# Altium schematic symbol library Header.SchLib: 46 symbols
Pins are listed as number, name and electrical type; pins without a type are passive.

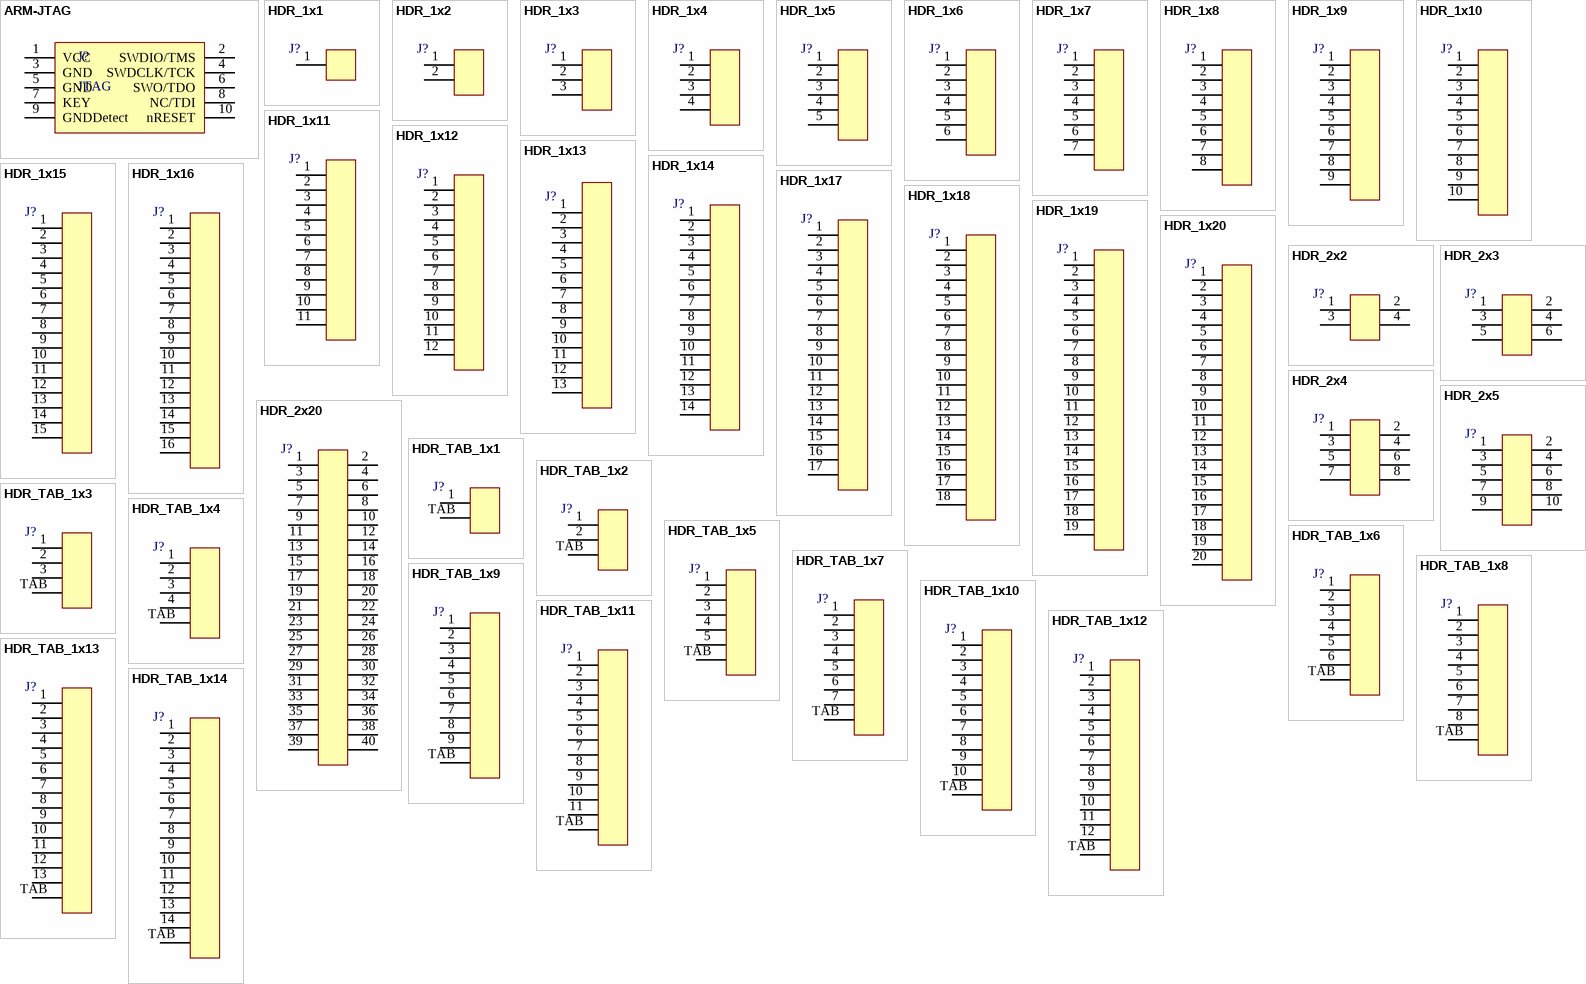
[diagram p0: symbols ARM-JTAG to HDR_TAB_1x14]

## ARM-JTAG
designator J?, comment JTAG
pins: 1 VCC, 2 SWDIO/TMS, 3 GND, 4 SWDCLK/TCK, 5 GND, 6 SWO/TDO, 7 KEY, 8 NC/TDI, 9 GNDDetect, 10 nRESET

## HDR_1x1
designator J?
=Description
pins: 1

## HDR_1x2
designator J?
=Description
pins: 1, 2

## HDR_1x3
designator J?
=Description
pins: 1, 2, 3

## HDR_1x4
designator J?
=Description
pins: 1, 2, 3, 4

## HDR_1x5
designator J?
=Description
pins: 1, 2, 3, 4, 5

## HDR_1x6
designator J?
=Description
pins: 1, 2, 3, 4, 5, 6

## HDR_1x7
designator J?
=Description
pins: 1, 2, 3, 4, 5, 6, 7

## HDR_1x8
designator J?
=Description
pins: 1, 2, 3, 4, 5, 6, 7, 8

## HDR_1x9
designator J?
=Description
pins: 1, 2, 3, 4, 5, 6, 7, 8, 9

## HDR_1x10
designator J?
=Description
pins: 1, 2, 3, 4, 5, 6, 7, 8, 9, 10

## HDR_1x11
designator J?
=Description
pins: 1, 2, 3, 4, 5, 6, 7, 8, 9, 10, 11

## HDR_1x12
designator J?
=Description
pins: 1, 2, 3, 4, 5, 6, 7, 8, 9, 10, 11, 12

## HDR_1x13
designator J?
=Description
pins: 1, 2, 3, 4, 5, 6, 7, 8, 9, 10, 11, 12, 13

## HDR_1x14
designator J?
=Description
pins: 1, 2, 3, 4, 5, 6, 7, 8, 9, 10, 11, 12, 13, 14

## HDR_1x15
designator J?
=Description
pins: 1, 2, 3, 4, 5, 6, 7, 8, 9, 10, 11, 12, 13, 14, 15

## HDR_1x16
designator J?
=Description
pins: 1, 2, 3, 4, 5, 6, 7, 8, 9, 10, 11, 12, 13, 14, 15, 16

## HDR_1x17
designator J?
=Description
pins: 1, 2, 3, 4, 5, 6, 7, 8, 9, 10, 11, 12, 13, 14, 15, 16, 17

## HDR_1x18
designator J?
=Description
pins: 1, 2, 3, 4, 5, 6, 7, 8, 9, 10, 11, 12, 13, 14, 15, 16, 17, 18

## HDR_1x19
designator J?
=Description
pins: 1, 2, 3, 4, 5, 6, 7, 8, 9, 10, 11, 12, 13, 14, 15, 16, 17, 18, 19

## HDR_1x20
designator J?
=Description
pins: 1, 2, 3, 4, 5, 6, 7, 8, 9, 10, 11, 12, 13, 14, 15, 16, 17, 18, 19, 20

## HDR_2x2
designator J?
=Description
pins: 1, 2, 3, 4

## HDR_2x3
designator J?
=Description
pins: 1, 2, 3, 4, 5, 6

## HDR_2x4
designator J?
=Description
pins: 1, 2, 3, 4, 5, 6, 7, 8

## HDR_2x5
designator J?
=Description
pins: 1, 2, 3, 4, 5, 6, 7 (power), 8 (power), 9 (power), 10 (power)

## HDR_2x20
designator J?
=Description
pins: 1, 2, 3, 4, 5, 6, 7, 8, 9, 10, 11, 12, 13, 14, 15, 16, 17, 18, 19, 20, 21 (power), 22 (power), 23 (power), 24 (power), 25 (power), 26 (power), 27 (power), 28 (power), 29 (power), 30 (power), 31 (power), 32 (power), 33 (power), 34 (power), 35 (power), 36 (power), 37 (power), 38 (power), 39 (power), 40 (power)

## HDR_TAB_1x1
designator J?
=Description
pins: 1, TAB

## HDR_TAB_1x2
designator J?
=Description
pins: 1, 2, TAB

## HDR_TAB_1x3
designator J?
=Description
pins: 1, 2, 3, TAB

## HDR_TAB_1x4
designator J?
=Description
pins: 1, 2, 3, 4, TAB

## HDR_TAB_1x5
designator J?
=Description
pins: 1, 2, 3, 4, 5, TAB

## HDR_TAB_1x6
designator J?
=Description
pins: 1, 2, 3, 4, 5, 6, TAB

## HDR_TAB_1x7
designator J?
=Description
pins: 1, 2, 3, 4, 5, 6, 7, TAB

## HDR_TAB_1x8
designator J?
=Description
pins: 1, 2, 3, 4, 5, 6, 7, 8, TAB

## HDR_TAB_1x9
designator J?
=Description
pins: 1, 2, 3, 4, 5, 6, 7, 8, 9, TAB

## HDR_TAB_1x10
designator J?
=Description
pins: 1, 2, 3, 4, 5, 6, 7, 8, 9, 10, TAB

## HDR_TAB_1x11
designator J?
=Description
pins: 1, 2, 3, 4, 5, 6, 7, 8, 9, 10, 11, TAB

## HDR_TAB_1x12
designator J?
=Description
pins: 1, 2, 3, 4, 5, 6, 7, 8, 9, 10, 11, 12, TAB

## HDR_TAB_1x13
designator J?
=Description
pins: 1, 2, 3, 4, 5, 6, 7, 8, 9, 10, 11, 12, 13, TAB

## HDR_TAB_1x14
designator J?
=Description
pins: 1, 2, 3, 4, 5, 6, 7, 8, 9, 10, 11, 12, 13, 14, TAB

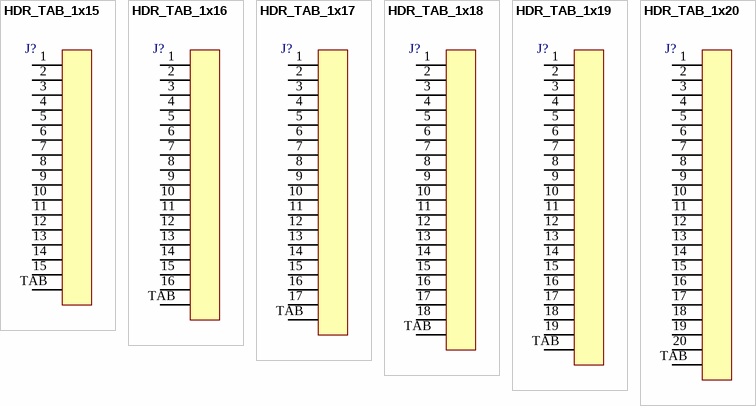
[diagram p1: symbols HDR_TAB_1x15 to HDR_TAB_1x20]

## HDR_TAB_1x15
designator J?
=Description
pins: 1, 2, 3, 4, 5, 6, 7, 8, 9, 10, 11, 12, 13, 14, 15, TAB

## HDR_TAB_1x16
designator J?
=Description
pins: 1, 2, 3, 4, 5, 6, 7, 8, 9, 10, 11, 12, 13, 14, 15, 16, TAB

## HDR_TAB_1x17
designator J?
=Description
pins: 1, 2, 3, 4, 5, 6, 7, 8, 9, 10, 11, 12, 13, 14, 15, 16, 17, TAB

## HDR_TAB_1x18
designator J?
=Description
pins: 1, 2, 3, 4, 5, 6, 7, 8, 9, 10, 11, 12, 13, 14, 15, 16, 17, 18, TAB

## HDR_TAB_1x19
designator J?
=Description
pins: 1, 2, 3, 4, 5, 6, 7, 8, 9, 10, 11, 12, 13, 14, 15, 16, 17, 18, 19, TAB

## HDR_TAB_1x20
designator J?
=Description
pins: 1, 2, 3, 4, 5, 6, 7, 8, 9, 10, 11, 12, 13, 14, 15, 16, 17, 18, 19, 20, TAB